# Altium integrated library ALTIUM-WCAP-ASLI-rev16b.IntLib: 107 symbols (part 2 of 2)
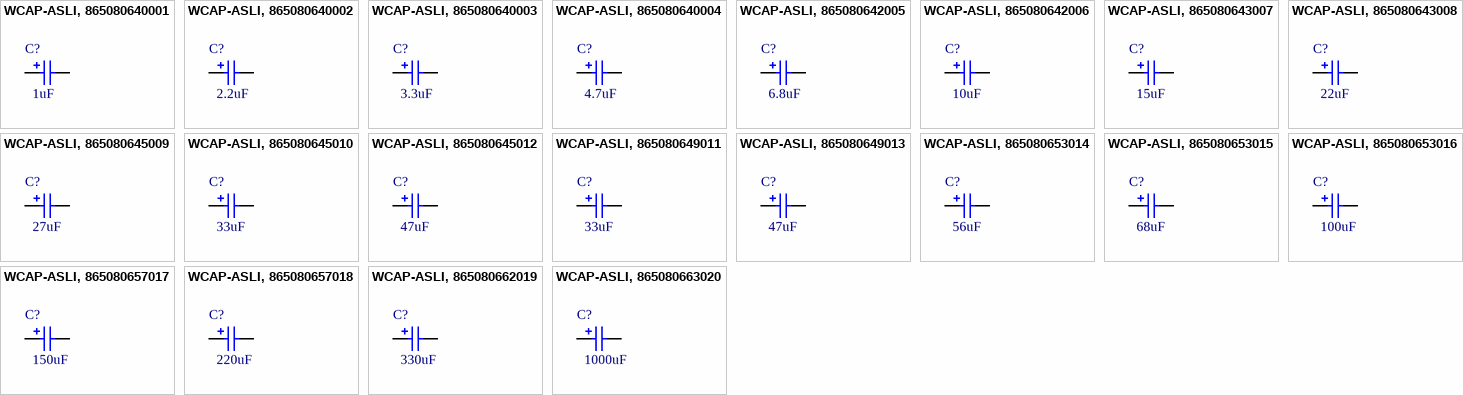
[diagram p6: symbols WCAP-ASLI, 865080640001 to WCAP-ASLI, 865080663020]

## WCAP-ASLI, 865080653016
designator C?, comment 100uF
WCAP-ASLI Aluminum Electrolytic Capacitors, 100uF; PartNumber: 865080653016; RatedVoltage: 50V; PublishedDate: July 2016; Publisher: Wurth Elektronik; ComponentLink1Description: Manufacturer; ComponentLink1URL: http://www.we-online.de; ComponentLink2Description: Datasheet; ComponentLink2URL: http://katalog.we-online.com/pbs/datasheet/865080653016.pdf; Value: 100uF; Size: 8mmx10.5mm
footprint WCAP-ASLI_8x10.5
pins: 1 P, 2 N

## WCAP-ASLI, 865080657017
designator C?, comment 150uF
WCAP-ASLI Aluminum Electrolytic Capacitors, 150uF; PartNumber: 865080657017; RatedVoltage: 50V; PublishedDate: July 2016; Publisher: Wurth Elektronik; ComponentLink1Description: Manufacturer; ComponentLink1URL: http://www.we-online.de; ComponentLink2Description: Datasheet; ComponentLink2URL: http://katalog.we-online.com/pbs/datasheet/865080657017.pdf; Value: 150uF; Size: 10mmx10.5mm
footprint WCAP-ASLI_10x10.5
pins: 1 P, 2 N

## WCAP-ASLI, 865080657018
designator C?, comment 220uF
WCAP-ASLI Aluminum Electrolytic Capacitors, 220uF; PartNumber: 865080657018; RatedVoltage: 50V; PublishedDate: July 2016; Publisher: Wurth Elektronik; ComponentLink1Description: Manufacturer; ComponentLink1URL: http://www.we-online.de; ComponentLink2Description: Datasheet; ComponentLink2URL: http://katalog.we-online.com/pbs/datasheet/865080657018.pdf; Value: 220uF; Size: 10mmx10.5mm
footprint WCAP-ASLI_10x10.5
pins: 1 P, 2 N

## WCAP-ASLI, 865080662019
designator C?, comment 330uF
WCAP-ASLI Aluminum Electrolytic Capacitors, 330uF; PartNumber: 865080662019; RatedVoltage: 50V; PublishedDate: July 2016; Publisher: Wurth Elektronik; ComponentLink1Description: Manufacturer; ComponentLink1URL: http://www.we-online.de; ComponentLink2Description: Datasheet; ComponentLink2URL: http://katalog.we-online.com/pbs/datasheet/865080662019.pdf; Value: 330uF; Size: 12.5mmx14mm
footprint WCAP-ASLI_12.5x14
pins: 1 P, 2 N

## WCAP-ASLI, 865080663020
designator C?, comment 1000uF
WCAP-ASLI Aluminum Electrolytic Capacitors, 1000uF; PartNumber: 865080663020; RatedVoltage: 50V; PublishedDate: July 2016; Publisher: Wurth Elektronik; ComponentLink1Description: Manufacturer; ComponentLink1URL: http://www.we-online.de; ComponentLink2Description: Datasheet; ComponentLink2URL: http://katalog.we-online.com/pbs/datasheet/865080663020.pdf; Value: 1000uF; Size: 16mmx17mm
footprint WCAP-ASLI_16x17
pins: 1 P, 2 N